# Altium integrated library OctavoLib.IntLib: 6 symbols
Pins are listed as number, name and electrical type; pins without a type are passive.

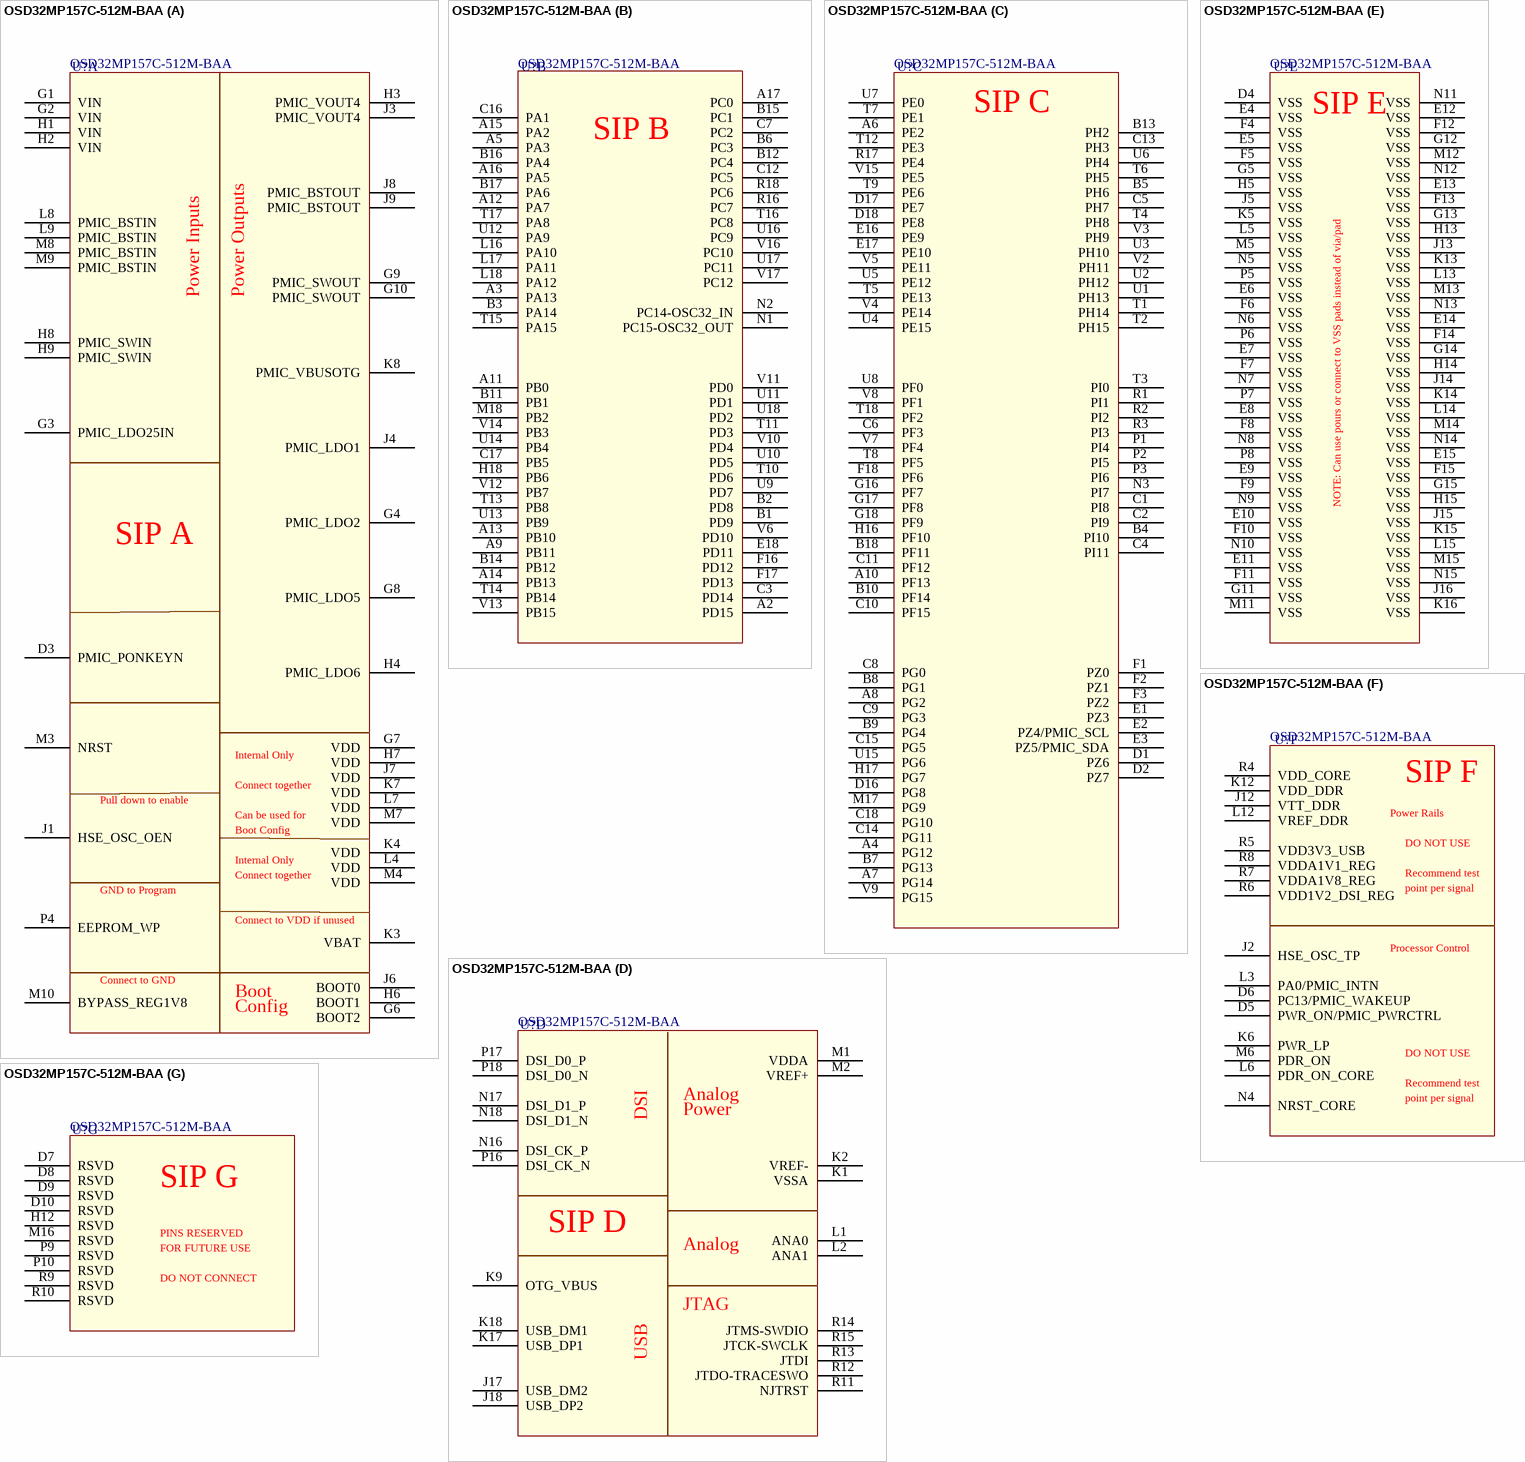
[diagram p0: symbol OSD32MP157C-512M-BAA]

## OSD32MP157C-512M-BAA
designator U?
Octavo Systems LLC OSD32MP15x Family SiP: 18mm x 18mm, 1mm pitch 302 pin BGA contains STM32MP157C, 512MB DDR3, STPMIC1A, 4kB EEPROM, MEMS oscillators (24MHz) and passives. Commerical Temperature (case): 0C to 85C.; Manufacturer: Octavo Systems; ComponentLink1Description: TBD; ComponentLink1URL: http://TBD; PackageDescription: 302-Ball Grid Array, 18x18x3mm, Pitch 1mm; Package: FBGA; Pin Count: 302-ball; Mounting Technology: Surface Mount; PartNumber: OSD32MP157C-512M-BAA
footprint BGA_18x18_302_1p00mm (302 pin 1mm pitch footprint)
part A pins: D3 PMIC_PONKEYN, G1 VIN, G2 VIN, G3 PMIC_LDO25IN, G4 PMIC_LDO2, G6 BOOT2, G7 VDD, G8 PMIC_LDO5, G9 PMIC_SWOUT, G10 PMIC_SWOUT, H1 VIN, H2 VIN, H3 PMIC_VOUT4, H4 PMIC_LDO6, H6 BOOT1, H7 VDD, H8 PMIC_SWIN, H9 PMIC_SWIN, J1 HSE_OSC_OEN, J3 PMIC_VOUT4, J4 PMIC_LDO1, J6 BOOT0, J7 VDD, J8 PMIC_BSTOUT, J9 PMIC_BSTOUT, K3 VBAT, K4 VDD, K7 VDD, K8 PMIC_VBUSOTG, L4 VDD, L7 VDD, L8 PMIC_BSTIN, L9 PMIC_BSTIN, M3 NRST, M4 VDD, M7 VDD, M8 PMIC_BSTIN, M9 PMIC_BSTIN, M10 BYPASS_REG1V8, P4 EEPROM_WP
part B pins: A2 PD15, A3 PA13, A5 PA3, A9 PB11, A11 PB0, A12 PA7, A13 PB10, A14 PB13, A15 PA2, A16 PA5, A17 PC0, B1 PD9, B2 PD8, B3 PA14, B6 PC3, B11 PB1, B12 PC4, B14 PB12, B15 PC1, B16 PA4, B17 PA6, C3 PD14, C7 PC2, C12 PC5, C16 PA1, C17 PB5, E18 PD11, F16 PD12, F17 PD13, H18 PB6, L16 PA10 "L16", L17 PA11, L18 PA12, M18 PB2, N1 PC15-OSC32_OUT, N2 PC14-OSC32_IN, R16 PC7, R18 PC6, T10 PD6, T11 PD3, T13 PB8, T14 PB14, T15 PA15, T16 PC8, T17 PA8, U9 PD7, U10 PD5, U11 PD1, U12 PA9, U13 PB9, U14 PB4, U16 PC9, U17 PC11, U18 PD2, V6 PD10, V10 PD4, V11 PD0, V12 PB7, V13 PB15, V14 PB3, V16 PC10, V17 PC12
part C pins: A4 PG12, A6 PE2, A7 PG14, A8 PG2, A10 PF13, B4 PI10, B5 PH6, B7 PG13, B8 PG1, B9 PG4, B10 PF14, B13 PH2, B18 PF11, C1 PI8, C2 PI9, C4 PI11, C5 PH7, C6 PF3, C8 PG0, C9 PG3, C10 PF15, C11 PF12, C13 PH3, C14 PG11, C15 PG5, C18 PG10, D1 PZ6, D2 PZ7, D16 PG8, D17 PE7, D18 PE8, E1 PZ3, E2 PZ4/PMIC_SCL, E3 PZ5/PMIC_SDA, E16 PE9, E17 PE10, F1 PZ0, F2 PZ1, F3 PZ2, F18 PF6, G16 PF7, G17 PF8, G18 PF9, H16 PF10, H17 PG7, M17 PG9, N3 PI7, P1 PI4, P2 PI5, P3 PI6, R1 PI1, R2 PI2, R3 PI3, R17 PE4, T1 PH14, T2 PH15, T3 PI0, T4 PH8, T5 PE13, T6 PH5, T7 PE1, T8 PF5, T9 PE6, T12 PE3, T18 PF2, U1 PH13, U2 PH12, U3 PH10, U4 PE15, U5 PE12, U6 PH4, U7 PE0, U8 PF0, U15 PG6, V2 PH11, V3 PH9, V4 PE14, V5 PE11, V7 PF4, V8 PF1, V9 PG15, V15 PE5
part D pins: J17 USB_DM2, J18 USB_DP2, K1 VSSA, K2 VREF-, K9 OTG_VBUS, K17 USB_DP1, K18 USB_DM1, L1 ANA0, L2 ANA1, M1 VDDA, M2 VREF+, N16 DSI_CK_P, N17 DSI_D1_P, N18 DSI_D1_N, P16 DSI_CK_N, P17 DSI_D0_P, P18 DSI_D0_N, R11 NJTRST, R12 JTDO-TRACESWO, R13 JTDI, R14 JTMS-SWDIO, R15 JTCK-SWCLK
part E pins: D4 VSS, E4 VSS, E5 VSS, E6 VSS, E7 VSS, E8 VSS, E9 VSS, E10 VSS, E11 VSS, E12 VSS, E13 VSS, E14 VSS, E15 VSS, F4 VSS, F5 VSS, F6 VSS, F7 VSS, F8 VSS, F9 VSS, F10 VSS, F11 VSS, F12 VSS, F13 VSS, F14 VSS, F15 VSS, G5 VSS, G11 VSS, G12 VSS, G13 VSS, G14 VSS, G15 VSS, H5 VSS, H13 VSS, H14 VSS, H15 VSS, J5 VSS, J13 VSS, J14 VSS, J15 VSS, J16 VSS, K5 VSS, K13 VSS, K14 VSS, K15 VSS, K16 VSS, L5 VSS, L13 VSS, L14 VSS, L15 VSS, M5 VSS, M11 VSS, M12 VSS, M13 VSS, M14 VSS, M15 VSS, N5 VSS, N6 VSS, N7 VSS, N8 VSS, N9 VSS, N10 VSS, N11 VSS, N12 VSS, N13 VSS, N14 VSS, N15 VSS, P5 VSS, P6 VSS, P7 VSS, P8 VSS
part F pins: D5 PWR_ON/PMIC_PWRCTRL, D6 PC13/PMIC_WAKEUP, J2 HSE_OSC_TP, J12 VTT_DDR, K6 PWR_LP, K12 VDD_DDR, L3 PA0/PMIC_INTN, L6 PDR_ON_CORE, L12 VREF_DDR, M6 PDR_ON, N4 NRST_CORE, R4 VDD_CORE, R5 VDD3V3_USB, R6 VDD1V2_DSI_REG, R7 VDDA1V8_REG, R8 VDDA1V1_REG
part G pins: D7 RSVD, D8 RSVD, D9 RSVD, D10 RSVD, H12 RSVD, M16 RSVD, P9 RSVD, P10 RSVD, R9 RSVD, R10 RSVD
part A text: Power Inputs; Power Outputs; SIP A; Internal Only; Connect together; Pull down to enable; Can be used for; Boot Config; GND to Program; Connect to VDD if unused; Connect to GND; Boot; Config
part B text: SIP B
part C text: SIP C
part D text: Analog; DSI; Power; SIP D; JTAG; USB
part E text: SIP E; NOTE: Can use pours or connect to VSS pads instead of via/pad
part F text: SIP F; Power Rails; DO NOT USE; Recommend test; point per signal; Processor Control
part G text: SIP G; PINS RESERVED; FOR FUTURE USE; DO NOT CONNECT

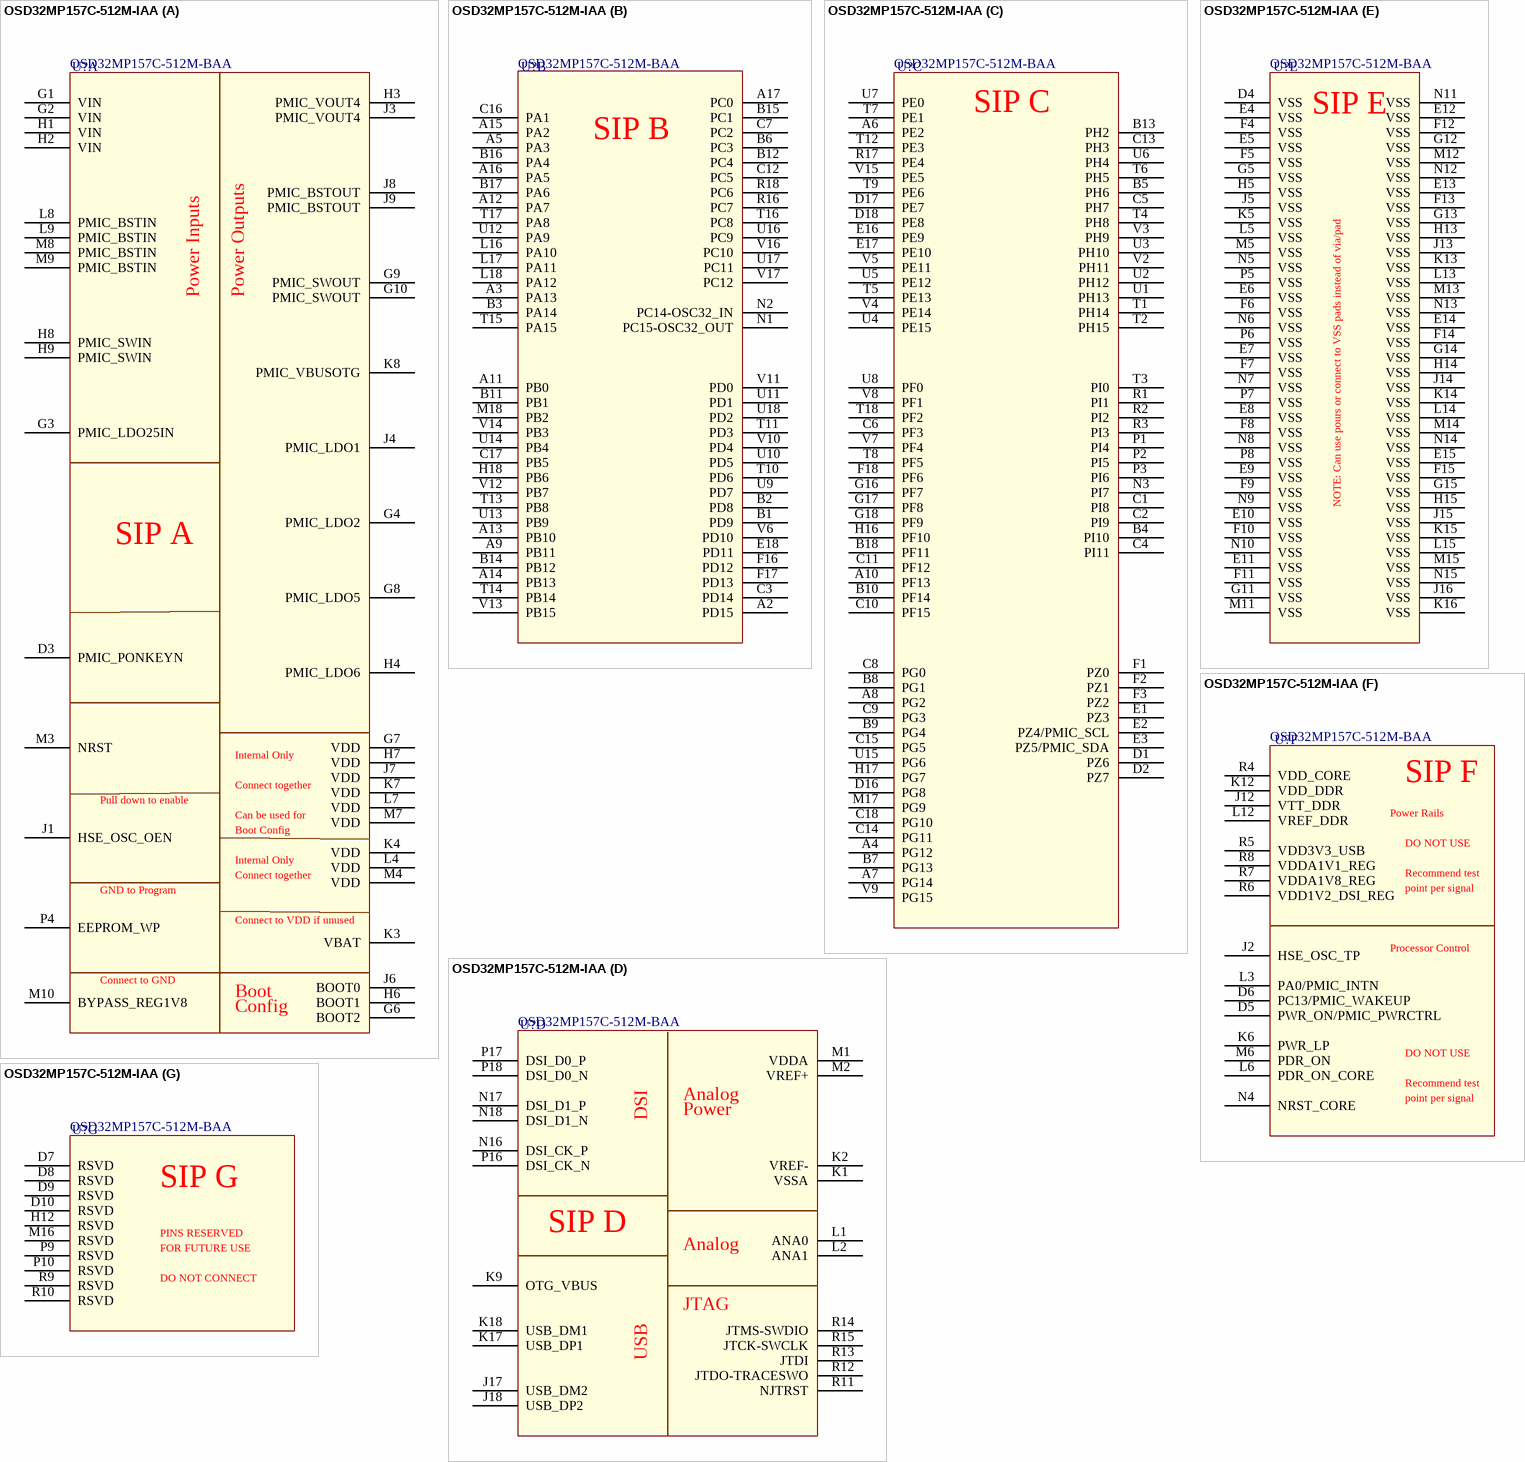
[diagram p1: symbol OSD32MP157C-512M-IAA]

## OSD32MP157C-512M-IAA
designator U?  PartNumber: OSD32MP157C-512M-BAA  (hidden comment: OSD32MP157C-512M-IAA)
Octavo Systems LLC OSD32MP15x Family SiP: 18mm x 18mm, 1mm pitch 302 pin BGA contains STM32MP157C, 512MB DDR3, STPMIC1A, 4kB EEPROM, MEMS oscillators (24MHz) and passives. Industrial Temperature (case): -40C to 85C.; Manufacturer: Octavo Systems; ComponentLink1Description: TBD; ComponentLink1URL: http://TBD; PackageDescription: 302-Ball Grid Array, 18x18x3mm, Pitch 1mm; Package: FBGA; Pin Count: 302-ball; Mounting Technology: Surface Mount
footprint BGA_18x18_302_1p00mm (302 pin 1mm pitch footprint)
part A pins: D3 PMIC_PONKEYN, G1 VIN, G2 VIN, G3 PMIC_LDO25IN, G4 PMIC_LDO2, G6 BOOT2, G7 VDD, G8 PMIC_LDO5, G9 PMIC_SWOUT, G10 PMIC_SWOUT, H1 VIN, H2 VIN, H3 PMIC_VOUT4, H4 PMIC_LDO6, H6 BOOT1, H7 VDD, H8 PMIC_SWIN, H9 PMIC_SWIN, J1 HSE_OSC_OEN, J3 PMIC_VOUT4, J4 PMIC_LDO1, J6 BOOT0, J7 VDD, J8 PMIC_BSTOUT, J9 PMIC_BSTOUT, K3 VBAT, K4 VDD, K7 VDD, K8 PMIC_VBUSOTG, L4 VDD, L7 VDD, L8 PMIC_BSTIN, L9 PMIC_BSTIN, M3 NRST, M4 VDD, M7 VDD, M8 PMIC_BSTIN, M9 PMIC_BSTIN, M10 BYPASS_REG1V8, P4 EEPROM_WP
part B pins: A2 PD15, A3 PA13, A5 PA3, A9 PB11, A11 PB0, A12 PA7, A13 PB10, A14 PB13, A15 PA2, A16 PA5, A17 PC0, B1 PD9, B2 PD8, B3 PA14, B6 PC3, B11 PB1, B12 PC4, B14 PB12, B15 PC1, B16 PA4, B17 PA6, C3 PD14, C7 PC2, C12 PC5, C16 PA1, C17 PB5, E18 PD11, F16 PD12, F17 PD13, H18 PB6, L16 PA10 "L16", L17 PA11, L18 PA12, M18 PB2, N1 PC15-OSC32_OUT, N2 PC14-OSC32_IN, R16 PC7, R18 PC6, T10 PD6, T11 PD3, T13 PB8, T14 PB14, T15 PA15, T16 PC8, T17 PA8, U9 PD7, U10 PD5, U11 PD1, U12 PA9, U13 PB9, U14 PB4, U16 PC9, U17 PC11, U18 PD2, V6 PD10, V10 PD4, V11 PD0, V12 PB7, V13 PB15, V14 PB3, V16 PC10, V17 PC12
part C pins: A4 PG12, A6 PE2, A7 PG14, A8 PG2, A10 PF13, B4 PI10, B5 PH6, B7 PG13, B8 PG1, B9 PG4, B10 PF14, B13 PH2, B18 PF11, C1 PI8, C2 PI9, C4 PI11, C5 PH7, C6 PF3, C8 PG0, C9 PG3, C10 PF15, C11 PF12, C13 PH3, C14 PG11, C15 PG5, C18 PG10, D1 PZ6, D2 PZ7, D16 PG8, D17 PE7, D18 PE8, E1 PZ3, E2 PZ4/PMIC_SCL, E3 PZ5/PMIC_SDA, E16 PE9, E17 PE10, F1 PZ0, F2 PZ1, F3 PZ2, F18 PF6, G16 PF7, G17 PF8, G18 PF9, H16 PF10, H17 PG7, M17 PG9, N3 PI7, P1 PI4, P2 PI5, P3 PI6, R1 PI1, R2 PI2, R3 PI3, R17 PE4, T1 PH14, T2 PH15, T3 PI0, T4 PH8, T5 PE13, T6 PH5, T7 PE1, T8 PF5, T9 PE6, T12 PE3, T18 PF2, U1 PH13, U2 PH12, U3 PH10, U4 PE15, U5 PE12, U6 PH4, U7 PE0, U8 PF0, U15 PG6, V2 PH11, V3 PH9, V4 PE14, V5 PE11, V7 PF4, V8 PF1, V9 PG15, V15 PE5
part D pins: J17 USB_DM2, J18 USB_DP2, K1 VSSA, K2 VREF-, K9 OTG_VBUS, K17 USB_DP1, K18 USB_DM1, L1 ANA0, L2 ANA1, M1 VDDA, M2 VREF+, N16 DSI_CK_P, N17 DSI_D1_P, N18 DSI_D1_N, P16 DSI_CK_N, P17 DSI_D0_P, P18 DSI_D0_N, R11 NJTRST, R12 JTDO-TRACESWO, R13 JTDI, R14 JTMS-SWDIO, R15 JTCK-SWCLK
part E pins: D4 VSS, E4 VSS, E5 VSS, E6 VSS, E7 VSS, E8 VSS, E9 VSS, E10 VSS, E11 VSS, E12 VSS, E13 VSS, E14 VSS, E15 VSS, F4 VSS, F5 VSS, F6 VSS, F7 VSS, F8 VSS, F9 VSS, F10 VSS, F11 VSS, F12 VSS, F13 VSS, F14 VSS, F15 VSS, G5 VSS, G11 VSS, G12 VSS, G13 VSS, G14 VSS, G15 VSS, H5 VSS, H13 VSS, H14 VSS, H15 VSS, J5 VSS, J13 VSS, J14 VSS, J15 VSS, J16 VSS, K5 VSS, K13 VSS, K14 VSS, K15 VSS, K16 VSS, L5 VSS, L13 VSS, L14 VSS, L15 VSS, M5 VSS, M11 VSS, M12 VSS, M13 VSS, M14 VSS, M15 VSS, N5 VSS, N6 VSS, N7 VSS, N8 VSS, N9 VSS, N10 VSS, N11 VSS, N12 VSS, N13 VSS, N14 VSS, N15 VSS, P5 VSS, P6 VSS, P7 VSS, P8 VSS
part F pins: D5 PWR_ON/PMIC_PWRCTRL, D6 PC13/PMIC_WAKEUP, J2 HSE_OSC_TP, J12 VTT_DDR, K6 PWR_LP, K12 VDD_DDR, L3 PA0/PMIC_INTN, L6 PDR_ON_CORE, L12 VREF_DDR, M6 PDR_ON, N4 NRST_CORE, R4 VDD_CORE, R5 VDD3V3_USB, R6 VDD1V2_DSI_REG, R7 VDDA1V8_REG, R8 VDDA1V1_REG
part G pins: D7 RSVD, D8 RSVD, D9 RSVD, D10 RSVD, H12 RSVD, M16 RSVD, P9 RSVD, P10 RSVD, R9 RSVD, R10 RSVD
part A text: Power Inputs; Power Outputs; SIP A; Internal Only; Connect together; Pull down to enable; Can be used for; Boot Config; GND to Program; Connect to VDD if unused; Connect to GND; Boot; Config
part B text: SIP B
part C text: SIP C
part D text: Analog; DSI; Power; SIP D; JTAG; USB
part E text: SIP E; NOTE: Can use pours or connect to VSS pads instead of via/pad
part F text: SIP F; Power Rails; DO NOT USE; Recommend test; point per signal; Processor Control
part G text: SIP G; PINS RESERVED; FOR FUTURE USE; DO NOT CONNECT

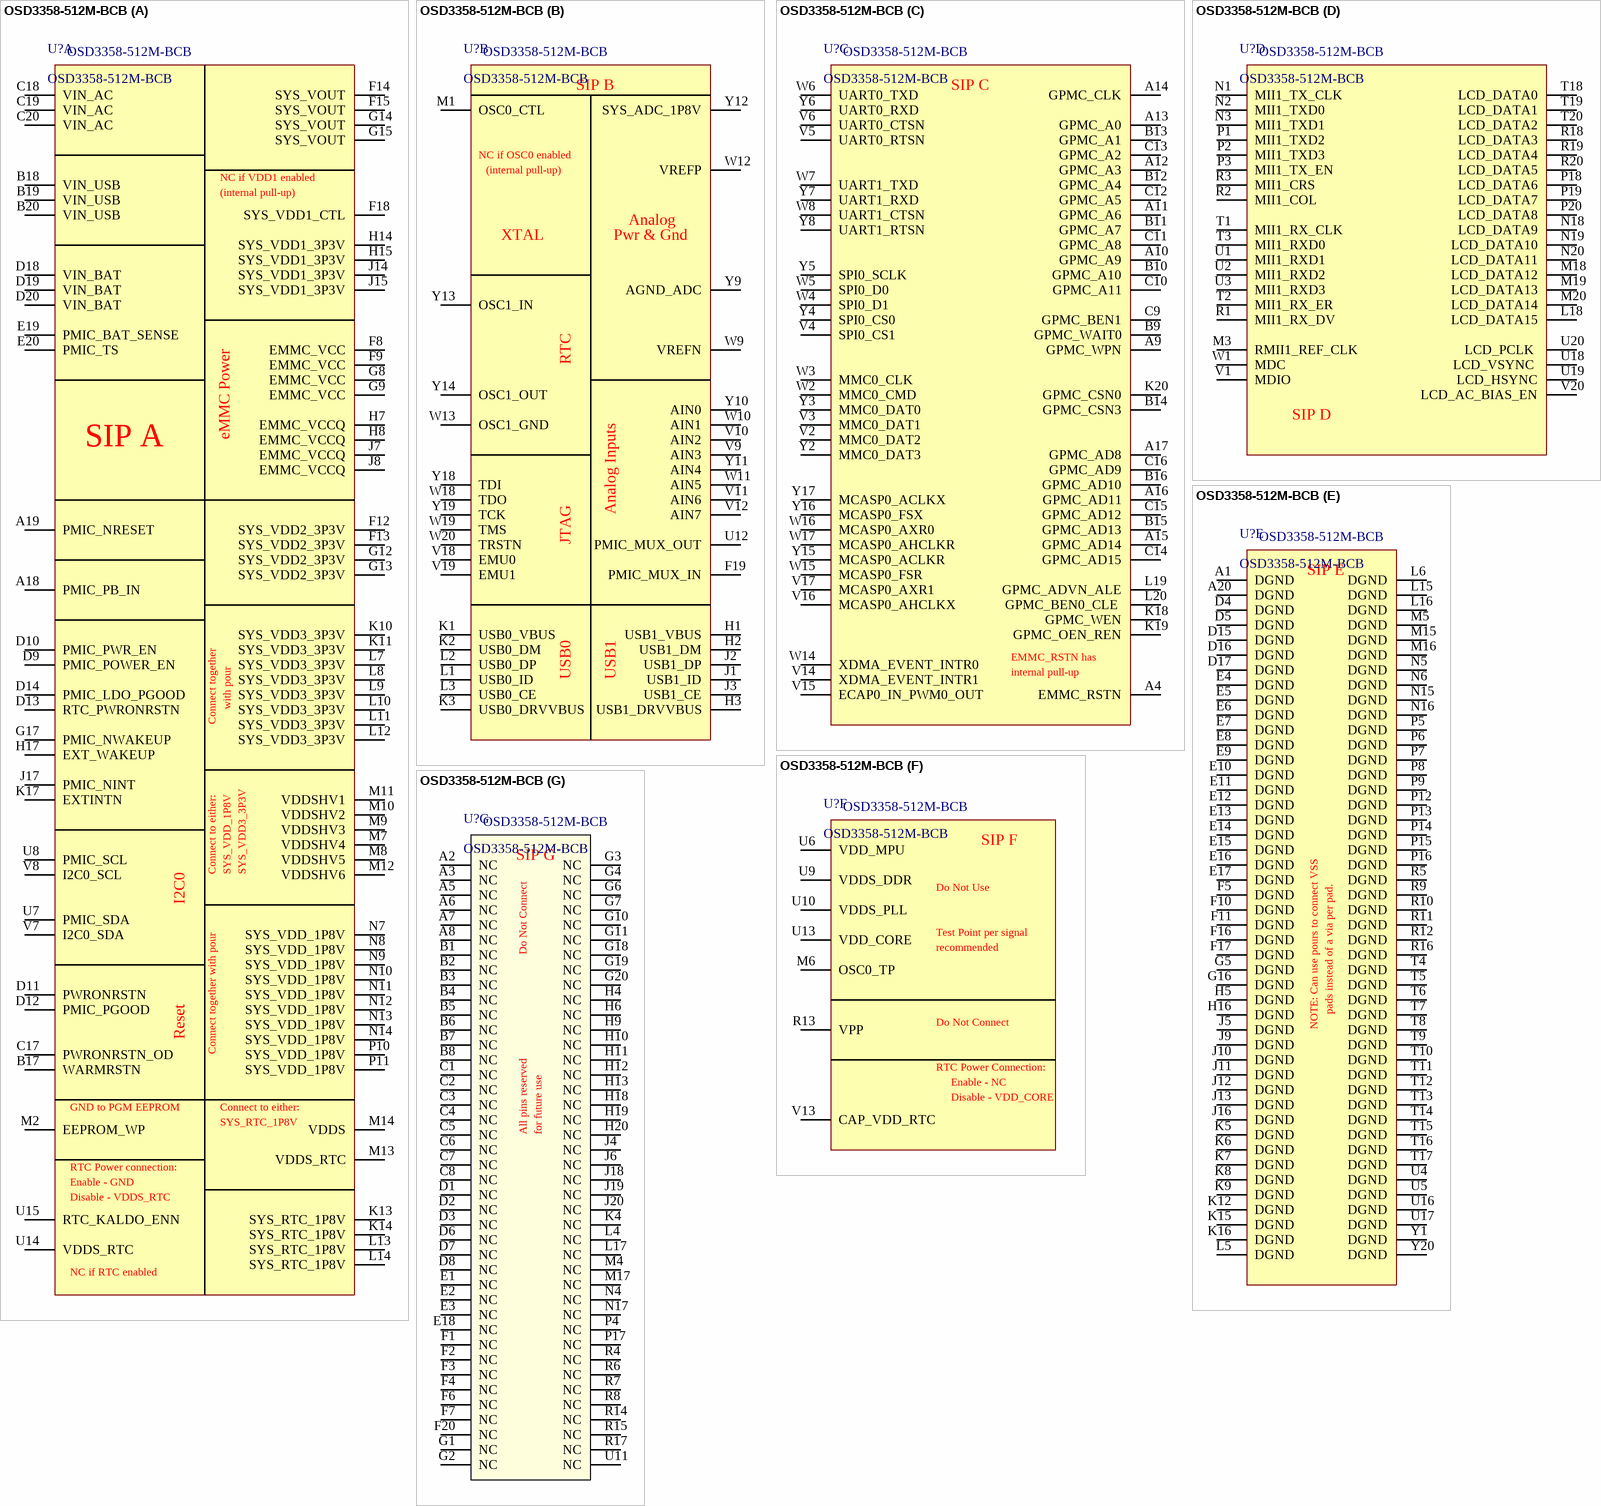
[diagram p2: symbol OSD3358-512M-BCB]

## OSD3358-512M-BCB
designator U?
Octavo Systems OSD335x Family SiP:  27mm x 27mm, 1.27mm pitch 400 pin BGA contains AM3358, 512MB DDR3, TPS65217C, TL5209, 4KB EEPROM, 4GB eMMC, 24MHz oscillator, and passives.  Commercial Temperature (case):  0C to 85C.; PackageDescription: 400-Ball Grid Array, 21x21x2.6 mm, Pitch 1.27 mm; Package: FBGA; Pin Count: 400-ball; Mounting Technology: Surface Mount; Manufacturer: Octavo Systems; ComponentLinkURL: www.octavosystems.com; PackageReference: FBGA-400; PartNumber: OSD3358-512M-BCB
footprint BGA_20x20_400_1p27mm (400 pin 1.27mm pitch footprint)
part A pins: A18 PMIC_PB_IN, A19 PMIC_NRESET, B17 WARMRSTN, B18 VIN_USB (power), B19 VIN_USB (power), B20 VIN_USB (power), C17 PWRONRSTN_OD, C18 VIN_AC (power), C19 VIN_AC (power), C20 VIN_AC (power), D9 PMIC_POWER_EN, D10 PMIC_PWR_EN, D11 PWRONRSTN, D12 PMIC_PGOOD, D13 RTC_PWRONRSTN, D14 PMIC_LDO_PGOOD, D18 VIN_BAT (power), D19 VIN_BAT (power), D20 VIN_BAT (power), E19 PMIC_BAT_SENSE, E20 PMIC_TS, F8 EMMC_VCC (power), F9 EMMC_VCC (power), F12 SYS_VDD2_3P3V (power), F13 SYS_VDD2_3P3V (power), F14 SYS_VOUT (power), F15 SYS_VOUT (power), F18 SYS_VDD1_CTL, G8 EMMC_VCC (power), G9 EMMC_VCC (power), G12 SYS_VDD2_3P3V (power), G13 SYS_VDD2_3P3V (power), G14 SYS_VOUT (power), G15 SYS_VOUT (power), G17 PMIC_NWAKEUP, H7 EMMC_VCCQ (power), H8 EMMC_VCCQ (power), H14 SYS_VDD1_3P3V (power), H15 SYS_VDD1_3P3V (power), H17 EXT_WAKEUP, J7 EMMC_VCCQ (power), J8 EMMC_VCCQ (power), J14 SYS_VDD1_3P3V (power), J15 SYS_VDD1_3P3V (power), J17 PMIC_NINT, K10 SYS_VDD3_3P3V (power), K11 SYS_VDD3_3P3V (power), K13 SYS_RTC_1P8V (power), K14 SYS_RTC_1P8V (power), K17 EXTINTN, L7 SYS_VDD3_3P3V (power), L8 SYS_VDD3_3P3V (power), L9 SYS_VDD3_3P3V (power), L10 SYS_VDD3_3P3V (power), L11 SYS_VDD3_3P3V (power), L12 SYS_VDD3_3P3V (power), L13 SYS_RTC_1P8V (power), L14 SYS_RTC_1P8V (power), M2 EEPROM_WP, M7 VDDSHV4 (power), M8 VDDSHV5 (power), M9 VDDSHV3 (power), M10 VDDSHV2 (power), M11 VDDSHV1 (power), M12 VDDSHV6 (power), M13 VDDS_RTC (power), M14 VDDS (power), N7 SYS_VDD_1P8V (power), N8 SYS_VDD_1P8V (power), N9 SYS_VDD_1P8V (power), N10 SYS_VDD_1P8V (power), N11 SYS_VDD_1P8V (power), N12 SYS_VDD_1P8V (power), N13 SYS_VDD_1P8V (power), N14 SYS_VDD_1P8V (power), P10 SYS_VDD_1P8V (power), P11 SYS_VDD_1P8V (power), U7 PMIC_SDA, U8 PMIC_SCL, U14 VDDS_RTC (power), U15 RTC_KALDO_ENN, V7 I2C0_SDA, V8 I2C0_SCL
part B pins: F19 PMIC_MUX_IN, H1 USB1_VBUS, H2 USB1_DM, H3 USB1_DRVVBUS, J1 USB1_ID, J2 USB1_DP, J3 USB1_CE, K1 USB0_VBUS, K2 USB0_DM, K3 USB0_DRVVBUS, L1 USB0_ID, L2 USB0_DP, L3 USB0_CE, M1 OSC0_CTL, U12 PMIC_MUX_OUT, V9 AIN3, V10 AIN2, V11 AIN6, V12 AIN7, V18 EMU0, V19 EMU1, W9 VREFN (power), W10 AIN1, W11 AIN5, W12 VREFP (power), W13 OSC1_GND (power), W18 TDO, W19 TMS, W20 TRSTN, Y9 AGND_ADC (power), Y10 AIN0, Y11 AIN4, Y12 SYS_ADC_1P8V (power), Y13 OSC1_IN, Y14 OSC1_OUT, Y18 TDI, Y19 TCK
part C pins: A4 EMMC_RSTN, A9 GPMC_WPN, A10 GPMC_A9, A11 GPMC_A6, A12 GPMC_A3, A13 GPMC_A0, A14 GPMC_CLK, A15 GPMC_AD14, A16 GPMC_AD11, A17 GPMC_AD8, B9 GPMC_WAIT0, B10 GPMC_A10, B11 GPMC_A7, B12 GPMC_A4, B13 GPMC_A1, B14 GPMC_CSN3, B15 GPMC_AD13, B16 GPMC_AD10, C9 GPMC_BEN1, C10 GPMC_A11, C11 GPMC_A8, C12 GPMC_A5, C13 GPMC_A2, C14 GPMC_AD15, C15 GPMC_AD12, C16 GPMC_AD9, K18 GPMC_WEN, K19 GPMC_OEN_REN, K20 GPMC_CSN0, L19 GPMC_ADVN_ALE, L20 GPMC_BEN0_CLE , V2 MMC0_DAT2, V3 MMC0_DAT1, V4 SPI0_CS1, V5 UART0_RTSN, V6 UART0_CTSN, V14 XDMA_EVENT_INTR1, V15 ECAP0_IN_PWM0_OUT, V16 MCASP0_AHCLKX, V17 MCASP0_AXR1, W2 MMC0_CMD, W3 MMC0_CLK, W4 SPI0_D1, W5 SPI0_D0, W6 UART0_TXD, W7 UART1_TXD, W8 UART1_CTSN, W14 XDMA_EVENT_INTR0, W15 MCASP0_FSR, W16 MCASP0_AXR0, W17 MCASP0_AHCLKR, Y2 MMC0_DAT3, Y3 MMC0_DAT0, Y4 SPI0_CS0, Y5 SPI0_SCLK, Y6 UART0_RXD, Y7 UART1_RXD, Y8 UART1_RTSN, Y15 MCASP0_ACLKR, Y16 MCASP0_FSX, Y17 MCASP0_ACLKX
part D pins: L18 LCD_DATA15, M3 RMII1_REF_CLK, M18 LCD_DATA12, M19 LCD_DATA13, M20 LCD_DATA14, N1 MII1_TX_CLK, N2 MII1_TXD0, N3 MII1_TXD1, N18 LCD_DATA9, N19 LCD_DATA10, N20 LCD_DATA11, P1 MII1_TXD2, P2 MII1_TXD3, P3 MII1_TX_EN, P18 LCD_DATA6, P19 LCD_DATA7, P20 LCD_DATA8, R1 MII1_RX_DV, R2 MII1_COL, R3 MII1_CRS, R18 LCD_DATA3, R19 LCD_DATA4, R20 LCD_DATA5, T1 MII1_RX_CLK, T2 MII1_RX_ER, T3 MII1_RXD0, T18 LCD_DATA0, T19 LCD_DATA1, T20 LCD_DATA2, U1 MII1_RXD1, U2 MII1_RXD2, U3 MII1_RXD3, U18 LCD_VSYNC , U19 LCD_HSYNC, U20 LCD_PCLK , V1 MDIO, V20 LCD_AC_BIAS_EN, W1 MDC
part E pins: A1 DGND (power), A20 DGND (power), D4 DGND (power), D5 DGND (power), D15 DGND (power), D16 DGND (power), D17 DGND (power), E4 DGND (power), E5 DGND (power), E6 DGND (power), E7 DGND (power), E8 DGND (power), E9 DGND (power), E10 DGND (power), E11 DGND (power), E12 DGND (power), E13 DGND (power), E14 DGND (power), E15 DGND (power), E16 DGND (power), E17 DGND (power), F5 DGND (power), F10 DGND (power), F11 DGND (power), F16 DGND (power), F17 DGND (power), G5 DGND (power), G16 DGND (power), H5 DGND (power), H16 DGND (power), J5 DGND (power), J9 DGND (power), J10 DGND (power), J11 DGND (power), J12 DGND (power), J13 DGND (power), J16 DGND (power), K5 DGND (power), K6 DGND (power), K7 DGND (power), K8 DGND (power), K9 DGND (power), K12 DGND (power), K15 DGND (power), K16 DGND (power), L5 DGND (power), L6 DGND (power), L15 DGND (power), L16 DGND (power), M5 DGND (power), M15 DGND (power), M16 DGND (power), N5 DGND (power), N6 DGND (power), N15 DGND (power), N16 DGND (power), P5 DGND (power), P6 DGND (power), P7 DGND (power), P8 DGND (power), P9 DGND (power), P12 DGND (power), P13 DGND (power), P14 DGND (power), P15 DGND (power), P16 DGND (power), R5 DGND (power), R9 DGND (power), R10 DGND (power), R11 DGND (power), R12 DGND (power), R16 DGND (power), T4 DGND (power), T5 DGND (power), T6 DGND (power), T7 DGND (power), T8 DGND (power), T9 DGND (power), T10 DGND (power), T11 DGND (power), T12 DGND (power), T13 DGND (power), T14 DGND (power), T15 DGND (power), T16 DGND (power), T17 DGND (power), U4 DGND (power), U5 DGND (power), U16 DGND (power), U17 DGND (power) "U17", Y1 DGND (power), Y20 DGND (power)
part F pins: M6 OSC0_TP, R13 VPP (power), U6 VDD_MPU (power), U9 VDDS_DDR (power), U10 VDDS_PLL (power), U13 VDD_CORE (power), V13 CAP_VDD_RTC (power)
part G pins: A2 NC, A3 NC, A5 NC, A6 NC, A7 NC, A8 NC, B1 NC, B2 NC, B3 NC, B4 NC, B5 NC, B6 NC, B7 NC, B8 NC, C1 NC, C2 NC, C3 NC, C4 NC, C5 NC, C6 NC, C7 NC, C8 NC, D1 NC, D2 NC, D3 NC, D6 NC, D7 NC, D8 NC, E1 NC, E2 NC, E3 NC, E18 NC, F1 NC, F2 NC, F3 NC, F4 NC, F6 NC (power), F7 NC (power), F20 NC, G1 NC, G2 NC, G3 NC, G4 NC, G6 NC (power), G7 NC (power), G10 NC, G11 NC, G18 NC, G19 NC, G20 NC, H4 NC, H6 NC, H9 NC, H10 NC, H11 NC, H12 NC, H13 NC, H18 NC, H19 NC, H20 NC, J4 NC, J6 NC, J18 NC, J19 NC, J20 NC, K4 NC, L4 NC, L17 NC, M4 NC, M17 NC, N4 NC, N17 NC, P4 NC, P17 NC, R4 NC, R6 NC, R7 NC, R8 NC (power), R14 NC, R15 NC, R17 NC, U11 NC
part A text: NC if VDD1 enabled; (internal pull-up); eMMC Power; SIP A; with pour; Connect together; Connect to either:; I2C0; Reset; Connect together with pour; GND to PGM EEPROM; RTC Power connection:; Enable - GND; Disable - VDDS_RTC; NC if RTC enabled
part B text: SIP B; NC if OSC0 enabled; (internal pull-up); Analog; XTAL; Pwr & Gnd; RTC; Analog Inputs; JTAG; USB0; USB1
part C text: SIP C; EMMC_RSTN has; internal pull-up
part D text: SIP D
part E text: SIP E; pads instead of a via per pad.; NOTE: Can use pours to connect VSS
part F text: SIP F; Do Not Use; Test Point per signal; recommended; Do Not Connect; RTC Power Connection:; Enable - NC; Disable - VDD_CORE
part G text: SIP G; Do Not Connect; All pins reserved; for future use

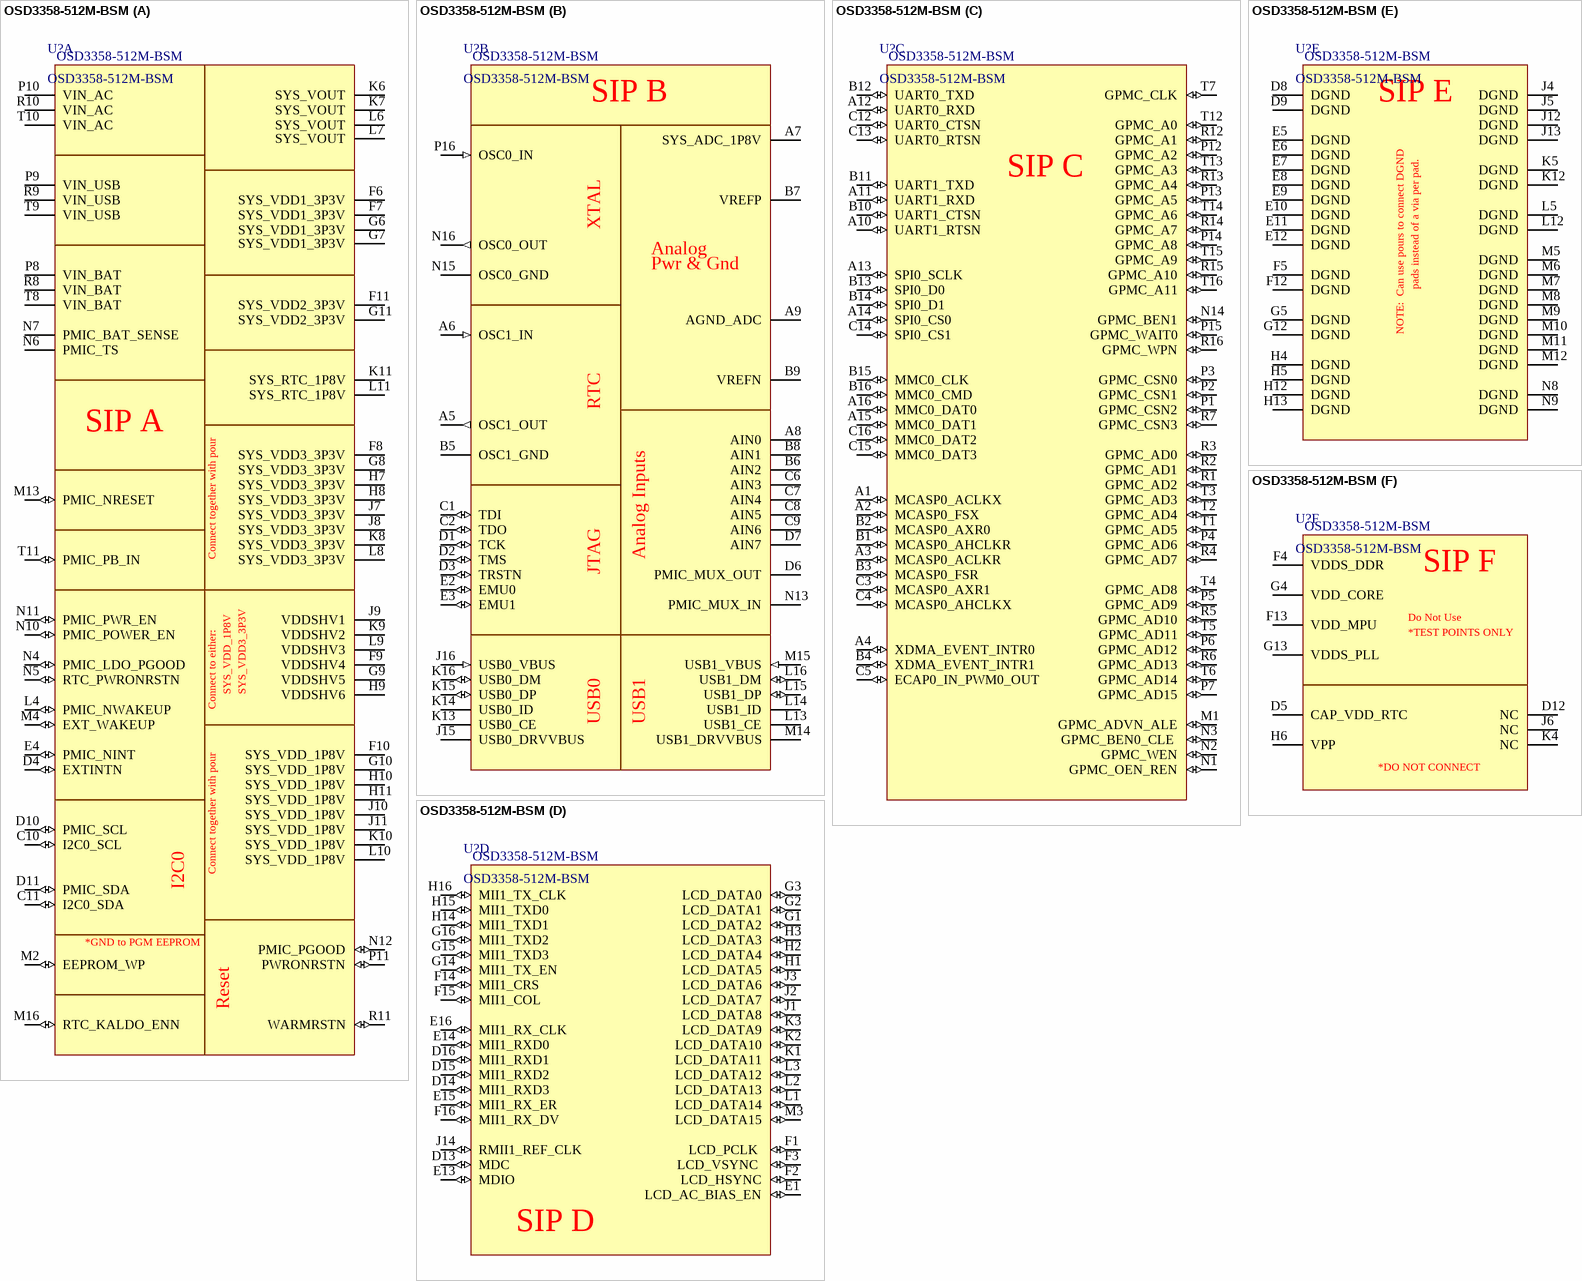
[diagram p3: symbol OSD3358-512M-BSM]

## OSD3358-512M-BSM
designator U?
Octavo Systems LLC OSD335x Family SiP:  27mm x 27mm, 1.27mm pitch 400 pin BGA contains AM3358, 512MB DDR3, TPS65217, TL5209, 4KB EEPROM, 4GB eMMC, 24MHz oscillator, and passives.  Commerical Temperature (case):  0C to 85C.; PackageDescription: 256-Ball Grid Array, 21x21x3 mm, Pitch 1.27 mm; Package: FBGA; Pin Count: 256-ball; Mounting Technology: Surface Mount; Manufacturer: Octavo Systems; ComponentLink1Description: Manufacturer URL; ComponentLink1URL: http://www.octavosystems.com/; PackageReference: FBGA-256; PartNumber: OSD3358-512M-BSM
footprint BGA_16x16_256_1p27mm (256 pin 1.27mm pitch footprint)
part A pins: C10 I2C0_SCL (io), C11 I2C0_SDA (io), D4 EXTINTN (io), D10 PMIC_SCL (io), D11 PMIC_SDA (io), E4 PMIC_NINT (io), F6 SYS_VDD1_3P3V (power), F7 SYS_VDD1_3P3V (power), F8 SYS_VDD3_3P3V (power), F9 VDDSHV4 (power), F10 SYS_VDD_1P8V (power), F11 SYS_VDD2_3P3V (power), G6 SYS_VDD1_3P3V (power), G7 SYS_VDD1_3P3V (power), G8 SYS_VDD3_3P3V (power), G9 VDDSHV5 (power), G10 SYS_VDD_1P8V (power), G11 SYS_VDD2_3P3V (power), H7 SYS_VDD3_3P3V (power), H8 SYS_VDD3_3P3V (power), H9 VDDSHV6 (power), H10 SYS_VDD_1P8V (power), H11 SYS_VDD_1P8V (power), J7 SYS_VDD3_3P3V (power), J8 SYS_VDD3_3P3V (power), J9 VDDSHV1 (power), J10 SYS_VDD_1P8V (power), J11 SYS_VDD_1P8V (power), K6 SYS_VOUT (power), K7 SYS_VOUT (power), K8 SYS_VDD3_3P3V (power), K9 VDDSHV2 (power), K10 SYS_VDD_1P8V (power), K11 SYS_RTC_1P8V (power), L4 PMIC_NWAKEUP (io), L6 SYS_VOUT (power), L7 SYS_VOUT (power), L8 SYS_VDD3_3P3V (power), L9 VDDSHV3 (power), L10 SYS_VDD_1P8V (power), L11 SYS_RTC_1P8V (power), M2 EEPROM_WP (io), M4 EXT_WAKEUP (io), M13 PMIC_NRESET (io), M16 RTC_KALDO_ENN (io), N4 PMIC_LDO_PGOOD (io), N5 RTC_PWRONRSTN (io), N6 PMIC_TS, N7 PMIC_BAT_SENSE, N10 PMIC_POWER_EN (io), N11 PMIC_PWR_EN (io), N12 PMIC_PGOOD (io), P8 VIN_BAT (power), P9 VIN_USB (power), P10 VIN_AC (power), P11 PWRONRSTN (io), R8 VIN_BAT (power), R9 VIN_USB (power), R10 VIN_AC (power), R11 WARMRSTN (io), T8 VIN_BAT (power), T9 VIN_USB (power), T10 VIN_AC (power), T11 PMIC_PB_IN (io)
part B pins: A5 OSC1_OUT (out), A6 OSC1_IN (in), A7 SYS_ADC_1P8V (power), A8 AIN0, A9 AGND_ADC (power), B5 OSC1_GND (power), B6 AIN2, B7 VREFP (power), B8 AIN1, B9 VREFN (power), C1 TDI (io), C2 TDO (io), C6 AIN3, C7 AIN4, C8 AIN5, C9 AIN6, D1 TCK (io), D2 TMS (io), D3 TRSTN (io), D6 PMIC_MUX_OUT, D7 AIN7, E2 EMU0 (io), E3 EMU1 (io), J15 USB0_DRVVBUS (power), J16 USB0_VBUS (in), K13 USB0_CE (power), K14 USB0_ID, K15 USB0_DP (io), K16 USB0_DM (io), L13 USB1_CE (power), L14 USB1_ID, L15 USB1_DP (io), L16 USB1_DM (io), M14 USB1_DRVVBUS (power), M15 USB1_VBUS (in), N13 PMIC_MUX_IN, N15 OSC0_GND (power), N16 OSC0_OUT (out), P16 OSC0_IN (in)
part C pins: A1 MCASP0_ACLKX (io), A2 MCASP0_FSX (io), A3 MCASP0_ACLKR (io), A4 XDMA_EVENT_INTR0 (io), A10 UART1_RTSN (io), A11 UART1_RXD (io), A12 UART0_RXD (io), A13 SPI0_SCLK (io), A14 SPI0_CS0 (io), A15 MMC0_DAT1 (io), A16 MMC0_DAT0 (io), B1 MCASP0_AHCLKR (io), B2 MCASP0_AXR0 (io), B3 MCASP0_FSR (io), B4 XDMA_EVENT_INTR1 (io), B10 UART1_CTSN (io), B11 UART1_TXD (io), B12 UART0_TXD (io), B13 SPI0_D0 (io), B14 SPI0_D1 (io), B15 MMC0_CLK (io), B16 MMC0_CMD (io), C3 MCASP0_AXR1 (io), C4 MCASP0_AHCLKX (io), C5 ECAP0_IN_PWM0_OUT (io), C12 UART0_CTSN (io), C13 UART0_RTSN (io), C14 SPI0_CS1 (io), C15 MMC0_DAT3 (io), C16 MMC0_DAT2 (io), M1 GPMC_ADVN_ALE (io), N1 GPMC_OEN_REN (io), N2 GPMC_WEN (io), N3 GPMC_BEN0_CLE  (io), N14 GPMC_BEN1 (io), P1 GPMC_CSN2 (io), P2 GPMC_CSN1 (io), P3 GPMC_CSN0 (io), P4 GPMC_AD6 (io), P5 GPMC_AD9 (io), P6 GPMC_AD12 (io), P7 GPMC_AD15 (io), P12 GPMC_A2 (io), P13 GPMC_A5 (io), P14 GPMC_A8 (io), P15 GPMC_WAIT0 (io), R1 GPMC_AD2 (io), R2 GPMC_AD1 (io), R3 GPMC_AD0 (io), R4 GPMC_AD7 (io), R5 GPMC_AD10 (io), R6 GPMC_AD13 (io), R7 GPMC_CSN3 (io), R12 GPMC_A1 (io), R13 GPMC_A4 (io), R14 GPMC_A7 (io), R15 GPMC_A10 (io), R16 GPMC_WPN (io), T1 GPMC_AD5 (io), T2 GPMC_AD4 (io), T3 GPMC_AD3 (io), T4 GPMC_AD8 (io), T5 GPMC_AD11 (io), T6 GPMC_AD14 (io), T7 GPMC_CLK (io), T12 GPMC_A0 (io), T13 GPMC_A3 (io), T14 GPMC_A6 (io), T15 GPMC_A9 (io), T16 GPMC_A11 (io)
part D pins: D13 MDC (io), D14 MII1_RXD3 (io), D15 MII1_RXD2 (io), D16 MII1_RXD1 (io), E1 LCD_AC_BIAS_EN (io), E13 MDIO (io), E14 MII1_RXD0 (io), E15 MII1_RX_ER (io), E16  MII1_RX_CLK (io), F1 LCD_PCLK  (io), F2 LCD_HSYNC (io), F3 LCD_VSYNC  (io), F14 MII1_CRS (io), F15 MII1_COL (io), F16 MII1_RX_DV (io), G1 LCD_DATA2 (io), G2 LCD_DATA1 (io), G3 LCD_DATA0 (io), G14 MII1_TX_EN (io), G15 MII1_TXD3 (io), G16 MII1_TXD2 (io), H1 LCD_DATA5 (io), H2 LCD_DATA4 (io), H3 LCD_DATA3 (io), H14 MII1_TXD1 (io), H15 MII1_TXD0 (io), H16  MII1_TX_CLK (io), J1 LCD_DATA8 (io), J2 LCD_DATA7 (io), J3 LCD_DATA6 (io), J14 RMII1_REF_CLK (io), K1 LCD_DATA11 (io), K2 LCD_DATA10 (io), K3 LCD_DATA9 (io), L1 LCD_DATA14 (io), L2 LCD_DATA13 (io), L3 LCD_DATA12 (io), M3 LCD_DATA15 (io)
part E pins: D8 DGND (power), D9 DGND (power), E5 DGND (power), E6 DGND (power), E7 DGND (power), E8 DGND (power), E9 DGND (power), E10 DGND (power), E11 DGND (power), E12 DGND (power), F5 DGND (power), F12 DGND (power), G5 DGND (power), G12 DGND (power), H4 DGND (power), H5 DGND (power), H12 DGND (power), H13 DGND (power), J4 DGND (power), J5 DGND (power), J12 DGND (power), J13 DGND (power), K5 DGND (power), K12 DGND (power), L5 DGND (power), L12 DGND (power), M5 DGND (power), M6 DGND (power), M7 DGND (power), M8 DGND (power), M9 DGND (power), M10 DGND (power), M11 DGND (power), M12 DGND (power), N8 DGND (power), N9 DGND (power)
part F pins: D5 CAP_VDD_RTC (power), D12 NC (power), F4 VDDS_DDR (power), F13 VDD_MPU (power), G4 VDD_CORE (power), G13 VDDS_PLL (power), H6 VPP (power), J6 NC (power), K4 NC (power)
part A text: SIP A; Connect together with pour; Connect to either:; I2C0; *GND to PGM EEPROM; Reset
part B text: SIP B; XTAL; Analog; Pwr & Gnd; RTC; Analog Inputs; JTAG; USB0; USB1
part C text: SIP C
part D text: SIP D
part E text: SIP E; pads instead of a via per pad.; NOTE:  Can use pours to connect DGND
part F text: SIP F; Do Not Use; *TEST POINTS ONLY; *DO NOT CONNECT

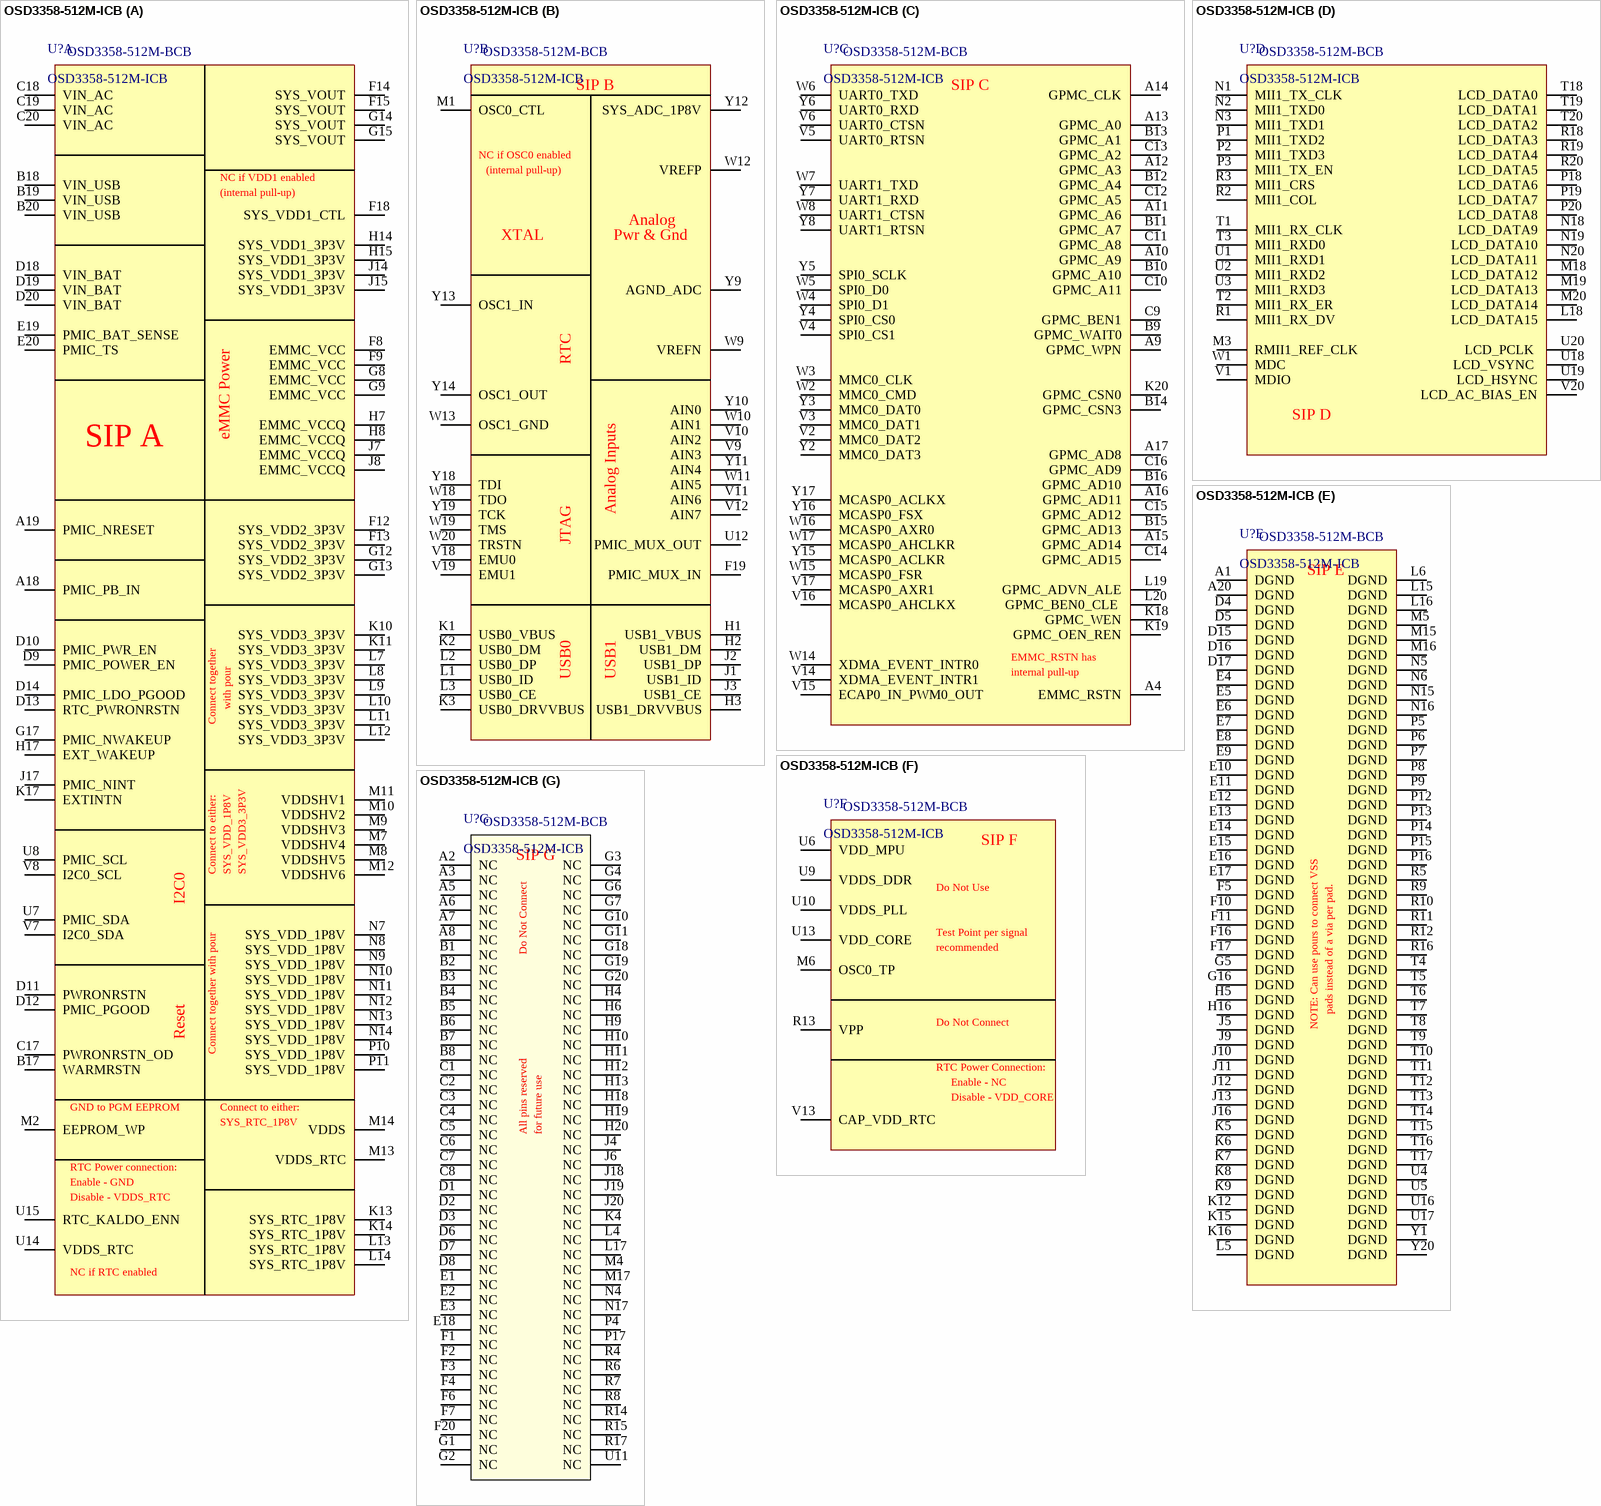
[diagram p4: symbol OSD3358-512M-ICB]

## OSD3358-512M-ICB
designator U?  PartNumber: OSD3358-512M-BCB
Octavo Systems OSD335x Family SiP:  27mm x 27mm, 1.27mm pitch 400 pin BGA contains AM3358, 512MB DDR3, TPS65217C, TL5209, 4KB EEPROM, 4GB eMMC, 24MHz oscillator, and passives.  Industrial Temperature (case):  -40C to 85C.; PackageDescription: 400-Ball Grid Array, 21x21x2.6 mm, Pitch 1.27 mm; Package: FBGA; Pin Count: 400-ball; Mounting Technology: Surface Mount; Manufacturer: Octavo Systems; ComponentLinkURL: www.octavosystems.com; PackageReference: FBGA-400
footprint BGA_20x20_400_1p27mm (400 pin 1.27mm pitch footprint)
part A pins: A18 PMIC_PB_IN, A19 PMIC_NRESET, B17 WARMRSTN, B18 VIN_USB (power), B19 VIN_USB (power), B20 VIN_USB (power), C17 PWRONRSTN_OD, C18 VIN_AC (power), C19 VIN_AC (power), C20 VIN_AC (power), D9 PMIC_POWER_EN, D10 PMIC_PWR_EN, D11 PWRONRSTN, D12 PMIC_PGOOD, D13 RTC_PWRONRSTN, D14 PMIC_LDO_PGOOD, D18 VIN_BAT (power), D19 VIN_BAT (power), D20 VIN_BAT (power), E19 PMIC_BAT_SENSE, E20 PMIC_TS, F8 EMMC_VCC (power), F9 EMMC_VCC (power), F12 SYS_VDD2_3P3V (power), F13 SYS_VDD2_3P3V (power), F14 SYS_VOUT (power), F15 SYS_VOUT (power), F18 SYS_VDD1_CTL, G8 EMMC_VCC (power), G9 EMMC_VCC (power), G12 SYS_VDD2_3P3V (power), G13 SYS_VDD2_3P3V (power), G14 SYS_VOUT (power), G15 SYS_VOUT (power), G17 PMIC_NWAKEUP, H7 EMMC_VCCQ (power), H8 EMMC_VCCQ (power), H14 SYS_VDD1_3P3V (power), H15 SYS_VDD1_3P3V (power), H17 EXT_WAKEUP, J7 EMMC_VCCQ (power), J8 EMMC_VCCQ (power), J14 SYS_VDD1_3P3V (power), J15 SYS_VDD1_3P3V (power), J17 PMIC_NINT, K10 SYS_VDD3_3P3V (power), K11 SYS_VDD3_3P3V (power), K13 SYS_RTC_1P8V (power), K14 SYS_RTC_1P8V (power), K17 EXTINTN, L7 SYS_VDD3_3P3V (power), L8 SYS_VDD3_3P3V (power), L9 SYS_VDD3_3P3V (power), L10 SYS_VDD3_3P3V (power), L11 SYS_VDD3_3P3V (power), L12 SYS_VDD3_3P3V (power), L13 SYS_RTC_1P8V (power), L14 SYS_RTC_1P8V (power), M2 EEPROM_WP, M7 VDDSHV4 (power), M8 VDDSHV5 (power), M9 VDDSHV3 (power), M10 VDDSHV2 (power), M11 VDDSHV1 (power), M12 VDDSHV6 (power), M13 VDDS_RTC (power), M14 VDDS (power), N7 SYS_VDD_1P8V (power), N8 SYS_VDD_1P8V (power), N9 SYS_VDD_1P8V (power), N10 SYS_VDD_1P8V (power), N11 SYS_VDD_1P8V (power), N12 SYS_VDD_1P8V (power), N13 SYS_VDD_1P8V (power), N14 SYS_VDD_1P8V (power), P10 SYS_VDD_1P8V (power), P11 SYS_VDD_1P8V (power), U7 PMIC_SDA, U8 PMIC_SCL, U14 VDDS_RTC (power), U15 RTC_KALDO_ENN, V7 I2C0_SDA, V8 I2C0_SCL
part B pins: F19 PMIC_MUX_IN, H1 USB1_VBUS, H2 USB1_DM, H3 USB1_DRVVBUS, J1 USB1_ID, J2 USB1_DP, J3 USB1_CE, K1 USB0_VBUS, K2 USB0_DM, K3 USB0_DRVVBUS, L1 USB0_ID, L2 USB0_DP, L3 USB0_CE, M1 OSC0_CTL, U12 PMIC_MUX_OUT, V9 AIN3, V10 AIN2, V11 AIN6, V12 AIN7, V18 EMU0, V19 EMU1, W9 VREFN (power), W10 AIN1, W11 AIN5, W12 VREFP (power), W13 OSC1_GND (power), W18 TDO, W19 TMS, W20 TRSTN, Y9 AGND_ADC (power), Y10 AIN0, Y11 AIN4, Y12 SYS_ADC_1P8V (power), Y13 OSC1_IN, Y14 OSC1_OUT, Y18 TDI, Y19 TCK
part C pins: A4 EMMC_RSTN, A9 GPMC_WPN, A10 GPMC_A9, A11 GPMC_A6, A12 GPMC_A3, A13 GPMC_A0, A14 GPMC_CLK, A15 GPMC_AD14, A16 GPMC_AD11, A17 GPMC_AD8, B9 GPMC_WAIT0, B10 GPMC_A10, B11 GPMC_A7, B12 GPMC_A4, B13 GPMC_A1, B14 GPMC_CSN3, B15 GPMC_AD13, B16 GPMC_AD10, C9 GPMC_BEN1, C10 GPMC_A11, C11 GPMC_A8, C12 GPMC_A5, C13 GPMC_A2, C14 GPMC_AD15, C15 GPMC_AD12, C16 GPMC_AD9, K18 GPMC_WEN, K19 GPMC_OEN_REN, K20 GPMC_CSN0, L19 GPMC_ADVN_ALE, L20 GPMC_BEN0_CLE , V2 MMC0_DAT2, V3 MMC0_DAT1, V4 SPI0_CS1, V5 UART0_RTSN, V6 UART0_CTSN, V14 XDMA_EVENT_INTR1, V15 ECAP0_IN_PWM0_OUT, V16 MCASP0_AHCLKX, V17 MCASP0_AXR1, W2 MMC0_CMD, W3 MMC0_CLK, W4 SPI0_D1, W5 SPI0_D0, W6 UART0_TXD, W7 UART1_TXD, W8 UART1_CTSN, W14 XDMA_EVENT_INTR0, W15 MCASP0_FSR, W16 MCASP0_AXR0, W17 MCASP0_AHCLKR, Y2 MMC0_DAT3, Y3 MMC0_DAT0, Y4 SPI0_CS0, Y5 SPI0_SCLK, Y6 UART0_RXD, Y7 UART1_RXD, Y8 UART1_RTSN, Y15 MCASP0_ACLKR, Y16 MCASP0_FSX, Y17 MCASP0_ACLKX
part D pins: L18 LCD_DATA15, M3 RMII1_REF_CLK, M18 LCD_DATA12, M19 LCD_DATA13, M20 LCD_DATA14, N1 MII1_TX_CLK, N2 MII1_TXD0, N3 MII1_TXD1, N18 LCD_DATA9, N19 LCD_DATA10, N20 LCD_DATA11, P1 MII1_TXD2, P2 MII1_TXD3, P3 MII1_TX_EN, P18 LCD_DATA6, P19 LCD_DATA7, P20 LCD_DATA8, R1 MII1_RX_DV, R2 MII1_COL, R3 MII1_CRS, R18 LCD_DATA3, R19 LCD_DATA4, R20 LCD_DATA5, T1 MII1_RX_CLK, T2 MII1_RX_ER, T3 MII1_RXD0, T18 LCD_DATA0, T19 LCD_DATA1, T20 LCD_DATA2, U1 MII1_RXD1, U2 MII1_RXD2, U3 MII1_RXD3, U18 LCD_VSYNC , U19 LCD_HSYNC, U20 LCD_PCLK , V1 MDIO, V20 LCD_AC_BIAS_EN, W1 MDC
part E pins: A1 DGND (power), A20 DGND (power), D4 DGND (power), D5 DGND (power), D15 DGND (power), D16 DGND (power), D17 DGND (power), E4 DGND (power), E5 DGND (power), E6 DGND (power), E7 DGND (power), E8 DGND (power), E9 DGND (power), E10 DGND (power), E11 DGND (power), E12 DGND (power), E13 DGND (power), E14 DGND (power), E15 DGND (power), E16 DGND (power), E17 DGND (power), F5 DGND (power), F10 DGND (power), F11 DGND (power), F16 DGND (power), F17 DGND (power), G5 DGND (power), G16 DGND (power), H5 DGND (power), H16 DGND (power), J5 DGND (power), J9 DGND (power), J10 DGND (power), J11 DGND (power), J12 DGND (power), J13 DGND (power), J16 DGND (power), K5 DGND (power), K6 DGND (power), K7 DGND (power), K8 DGND (power), K9 DGND (power), K12 DGND (power), K15 DGND (power), K16 DGND (power), L5 DGND (power), L6 DGND (power), L15 DGND (power), L16 DGND (power), M5 DGND (power), M15 DGND (power), M16 DGND (power), N5 DGND (power), N6 DGND (power), N15 DGND (power), N16 DGND (power), P5 DGND (power), P6 DGND (power), P7 DGND (power), P8 DGND (power), P9 DGND (power), P12 DGND (power), P13 DGND (power), P14 DGND (power), P15 DGND (power), P16 DGND (power), R5 DGND (power), R9 DGND (power), R10 DGND (power), R11 DGND (power), R12 DGND (power), R16 DGND (power), T4 DGND (power), T5 DGND (power), T6 DGND (power), T7 DGND (power), T8 DGND (power), T9 DGND (power), T10 DGND (power), T11 DGND (power), T12 DGND (power), T13 DGND (power), T14 DGND (power), T15 DGND (power), T16 DGND (power), T17 DGND (power), U4 DGND (power), U5 DGND (power), U16 DGND (power), U17 DGND (power) "U17", Y1 DGND (power), Y20 DGND (power)
part F pins: M6 OSC0_TP, R13 VPP (power), U6 VDD_MPU (power), U9 VDDS_DDR (power), U10 VDDS_PLL (power), U13 VDD_CORE (power), V13 CAP_VDD_RTC (power)
part G pins: A2 NC, A3 NC, A5 NC, A6 NC, A7 NC, A8 NC, B1 NC, B2 NC, B3 NC, B4 NC, B5 NC, B6 NC, B7 NC, B8 NC, C1 NC, C2 NC, C3 NC, C4 NC, C5 NC, C6 NC, C7 NC, C8 NC, D1 NC, D2 NC, D3 NC, D6 NC, D7 NC, D8 NC, E1 NC, E2 NC, E3 NC, E18 NC, F1 NC, F2 NC, F3 NC, F4 NC, F6 NC (power), F7 NC (power), F20 NC, G1 NC, G2 NC, G3 NC, G4 NC, G6 NC (power), G7 NC (power), G10 NC, G11 NC, G18 NC, G19 NC, G20 NC, H4 NC, H6 NC, H9 NC, H10 NC, H11 NC, H12 NC, H13 NC, H18 NC, H19 NC, H20 NC, J4 NC, J6 NC, J18 NC, J19 NC, J20 NC, K4 NC, L4 NC, L17 NC, M4 NC, M17 NC, N4 NC, N17 NC, P4 NC, P17 NC, R4 NC, R6 NC, R7 NC, R8 NC (power), R14 NC, R15 NC, R17 NC, U11 NC
part A text: NC if VDD1 enabled; (internal pull-up); eMMC Power; SIP A; with pour; Connect together; Connect to either:; I2C0; Reset; Connect together with pour; GND to PGM EEPROM; RTC Power connection:; Enable - GND; Disable - VDDS_RTC; NC if RTC enabled
part B text: SIP B; NC if OSC0 enabled; (internal pull-up); Analog; XTAL; Pwr & Gnd; RTC; Analog Inputs; JTAG; USB0; USB1
part C text: SIP C; EMMC_RSTN has; internal pull-up
part D text: SIP D
part E text: SIP E; pads instead of a via per pad.; NOTE: Can use pours to connect VSS
part F text: SIP F; Do Not Use; Test Point per signal; recommended; Do Not Connect; RTC Power Connection:; Enable - NC; Disable - VDD_CORE
part G text: SIP G; Do Not Connect; All pins reserved; for future use

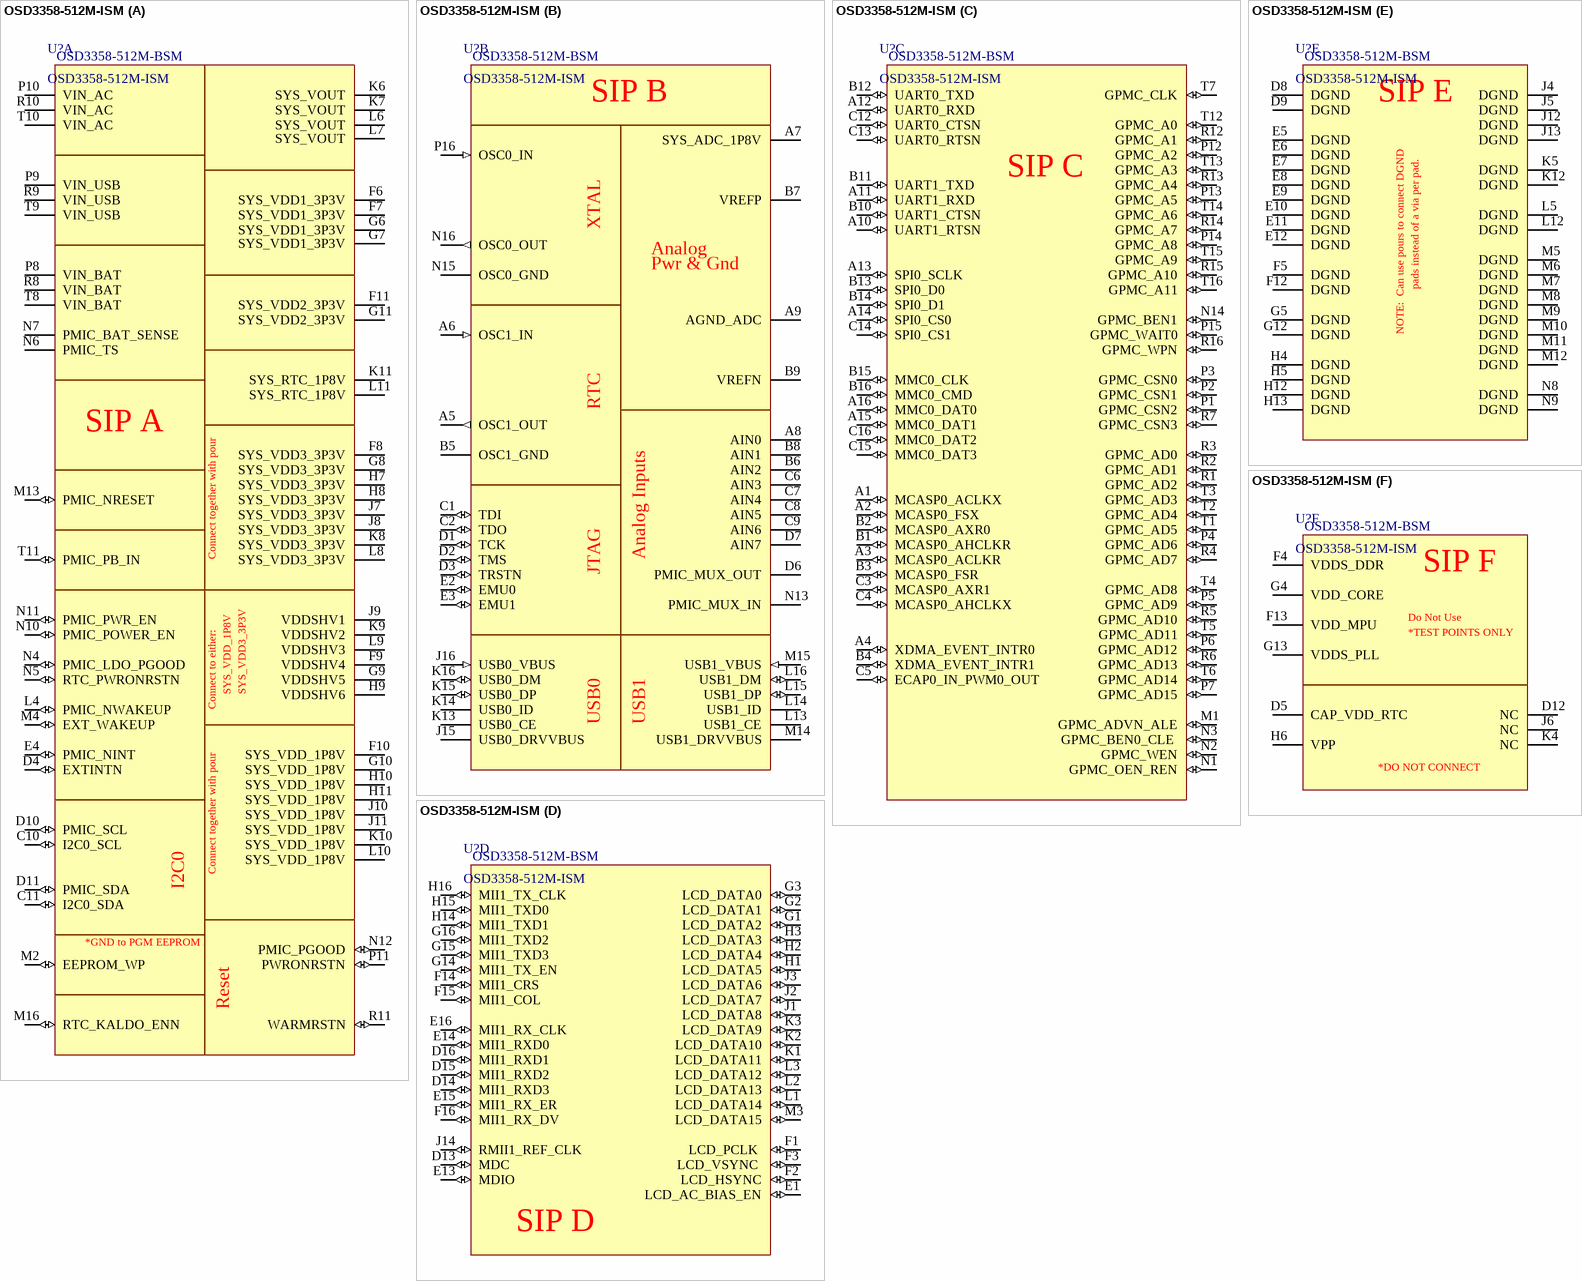
[diagram p5: symbol OSD3358-512M-ISM]

## OSD3358-512M-ISM
designator U?  PartNumber: OSD3358-512M-BSM
Octavo Systems LLC OSD335x Family SiP:  27mm x 27mm, 1.27mm pitch 400 pin BGA contains AM3358, 512MB DDR3, TPS65217, TL5209, 4KB EEPROM, 4GB eMMC, 24MHz oscillator, and passives.  Industrial Temperature (case):  -40C to 85C.; PackageDescription: 256-Ball Grid Array, 21x21x3 mm, Pitch 1.27 mm; Package: FBGA; Pin Count: 256-ball; Mounting Technology: Surface Mount; Manufacturer: Octavo Systems; ComponentLink1Description: Manufacturer URL; ComponentLink1URL: http://www.octavosystems.com/; PackageReference: FBGA-256
footprint BGA_16x16_256_1p27mm (256 pin 1.27mm pitch footprint)
part A pins: C10 I2C0_SCL (io), C11 I2C0_SDA (io), D4 EXTINTN (io), D10 PMIC_SCL (io), D11 PMIC_SDA (io), E4 PMIC_NINT (io), F6 SYS_VDD1_3P3V (power), F7 SYS_VDD1_3P3V (power), F8 SYS_VDD3_3P3V (power), F9 VDDSHV4 (power), F10 SYS_VDD_1P8V (power), F11 SYS_VDD2_3P3V (power), G6 SYS_VDD1_3P3V (power), G7 SYS_VDD1_3P3V (power), G8 SYS_VDD3_3P3V (power), G9 VDDSHV5 (power), G10 SYS_VDD_1P8V (power), G11 SYS_VDD2_3P3V (power), H7 SYS_VDD3_3P3V (power), H8 SYS_VDD3_3P3V (power), H9 VDDSHV6 (power), H10 SYS_VDD_1P8V (power), H11 SYS_VDD_1P8V (power), J7 SYS_VDD3_3P3V (power), J8 SYS_VDD3_3P3V (power), J9 VDDSHV1 (power), J10 SYS_VDD_1P8V (power), J11 SYS_VDD_1P8V (power), K6 SYS_VOUT (power), K7 SYS_VOUT (power), K8 SYS_VDD3_3P3V (power), K9 VDDSHV2 (power), K10 SYS_VDD_1P8V (power), K11 SYS_RTC_1P8V (power), L4 PMIC_NWAKEUP (io), L6 SYS_VOUT (power), L7 SYS_VOUT (power), L8 SYS_VDD3_3P3V (power), L9 VDDSHV3 (power), L10 SYS_VDD_1P8V (power), L11 SYS_RTC_1P8V (power), M2 EEPROM_WP (io), M4 EXT_WAKEUP (io), M13 PMIC_NRESET (io), M16 RTC_KALDO_ENN (io), N4 PMIC_LDO_PGOOD (io), N5 RTC_PWRONRSTN (io), N6 PMIC_TS, N7 PMIC_BAT_SENSE, N10 PMIC_POWER_EN (io), N11 PMIC_PWR_EN (io), N12 PMIC_PGOOD (io), P8 VIN_BAT (power), P9 VIN_USB (power), P10 VIN_AC (power), P11 PWRONRSTN (io), R8 VIN_BAT (power), R9 VIN_USB (power), R10 VIN_AC (power), R11 WARMRSTN (io), T8 VIN_BAT (power), T9 VIN_USB (power), T10 VIN_AC (power), T11 PMIC_PB_IN (io)
part B pins: A5 OSC1_OUT (out), A6 OSC1_IN (in), A7 SYS_ADC_1P8V (power), A8 AIN0, A9 AGND_ADC (power), B5 OSC1_GND (power), B6 AIN2, B7 VREFP (power), B8 AIN1, B9 VREFN (power), C1 TDI (io), C2 TDO (io), C6 AIN3, C7 AIN4, C8 AIN5, C9 AIN6, D1 TCK (io), D2 TMS (io), D3 TRSTN (io), D6 PMIC_MUX_OUT, D7 AIN7, E2 EMU0 (io), E3 EMU1 (io), J15 USB0_DRVVBUS (power), J16 USB0_VBUS (in), K13 USB0_CE (power), K14 USB0_ID, K15 USB0_DP (io), K16 USB0_DM (io), L13 USB1_CE (power), L14 USB1_ID, L15 USB1_DP (io), L16 USB1_DM (io), M14 USB1_DRVVBUS (power), M15 USB1_VBUS (in), N13 PMIC_MUX_IN, N15 OSC0_GND (power), N16 OSC0_OUT (out), P16 OSC0_IN (in)
part C pins: A1 MCASP0_ACLKX (io), A2 MCASP0_FSX (io), A3 MCASP0_ACLKR (io), A4 XDMA_EVENT_INTR0 (io), A10 UART1_RTSN (io), A11 UART1_RXD (io), A12 UART0_RXD (io), A13 SPI0_SCLK (io), A14 SPI0_CS0 (io), A15 MMC0_DAT1 (io), A16 MMC0_DAT0 (io), B1 MCASP0_AHCLKR (io), B2 MCASP0_AXR0 (io), B3 MCASP0_FSR (io), B4 XDMA_EVENT_INTR1 (io), B10 UART1_CTSN (io), B11 UART1_TXD (io), B12 UART0_TXD (io), B13 SPI0_D0 (io), B14 SPI0_D1 (io), B15 MMC0_CLK (io), B16 MMC0_CMD (io), C3 MCASP0_AXR1 (io), C4 MCASP0_AHCLKX (io), C5 ECAP0_IN_PWM0_OUT (io), C12 UART0_CTSN (io), C13 UART0_RTSN (io), C14 SPI0_CS1 (io), C15 MMC0_DAT3 (io), C16 MMC0_DAT2 (io), M1 GPMC_ADVN_ALE (io), N1 GPMC_OEN_REN (io), N2 GPMC_WEN (io), N3 GPMC_BEN0_CLE  (io), N14 GPMC_BEN1 (io), P1 GPMC_CSN2 (io), P2 GPMC_CSN1 (io), P3 GPMC_CSN0 (io), P4 GPMC_AD6 (io), P5 GPMC_AD9 (io), P6 GPMC_AD12 (io), P7 GPMC_AD15 (io), P12 GPMC_A2 (io), P13 GPMC_A5 (io), P14 GPMC_A8 (io), P15 GPMC_WAIT0 (io), R1 GPMC_AD2 (io), R2 GPMC_AD1 (io), R3 GPMC_AD0 (io), R4 GPMC_AD7 (io), R5 GPMC_AD10 (io), R6 GPMC_AD13 (io), R7 GPMC_CSN3 (io), R12 GPMC_A1 (io), R13 GPMC_A4 (io), R14 GPMC_A7 (io), R15 GPMC_A10 (io), R16 GPMC_WPN (io), T1 GPMC_AD5 (io), T2 GPMC_AD4 (io), T3 GPMC_AD3 (io), T4 GPMC_AD8 (io), T5 GPMC_AD11 (io), T6 GPMC_AD14 (io), T7 GPMC_CLK (io), T12 GPMC_A0 (io), T13 GPMC_A3 (io), T14 GPMC_A6 (io), T15 GPMC_A9 (io), T16 GPMC_A11 (io)
part D pins: D13 MDC (io), D14 MII1_RXD3 (io), D15 MII1_RXD2 (io), D16 MII1_RXD1 (io), E1 LCD_AC_BIAS_EN (io), E13 MDIO (io), E14 MII1_RXD0 (io), E15 MII1_RX_ER (io), E16  MII1_RX_CLK (io), F1 LCD_PCLK  (io), F2 LCD_HSYNC (io), F3 LCD_VSYNC  (io), F14 MII1_CRS (io), F15 MII1_COL (io), F16 MII1_RX_DV (io), G1 LCD_DATA2 (io), G2 LCD_DATA1 (io), G3 LCD_DATA0 (io), G14 MII1_TX_EN (io), G15 MII1_TXD3 (io), G16 MII1_TXD2 (io), H1 LCD_DATA5 (io), H2 LCD_DATA4 (io), H3 LCD_DATA3 (io), H14 MII1_TXD1 (io), H15 MII1_TXD0 (io), H16  MII1_TX_CLK (io), J1 LCD_DATA8 (io), J2 LCD_DATA7 (io), J3 LCD_DATA6 (io), J14 RMII1_REF_CLK (io), K1 LCD_DATA11 (io), K2 LCD_DATA10 (io), K3 LCD_DATA9 (io), L1 LCD_DATA14 (io), L2 LCD_DATA13 (io), L3 LCD_DATA12 (io), M3 LCD_DATA15 (io)
part E pins: D8 DGND (power), D9 DGND (power), E5 DGND (power), E6 DGND (power), E7 DGND (power), E8 DGND (power), E9 DGND (power), E10 DGND (power), E11 DGND (power), E12 DGND (power), F5 DGND (power), F12 DGND (power), G5 DGND (power), G12 DGND (power), H4 DGND (power), H5 DGND (power), H12 DGND (power), H13 DGND (power), J4 DGND (power), J5 DGND (power), J12 DGND (power), J13 DGND (power), K5 DGND (power), K12 DGND (power), L5 DGND (power), L12 DGND (power), M5 DGND (power), M6 DGND (power), M7 DGND (power), M8 DGND (power), M9 DGND (power), M10 DGND (power), M11 DGND (power), M12 DGND (power), N8 DGND (power), N9 DGND (power)
part F pins: D5 CAP_VDD_RTC (power), D12 NC (power), F4 VDDS_DDR (power), F13 VDD_MPU (power), G4 VDD_CORE (power), G13 VDDS_PLL (power), H6 VPP (power), J6 NC (power), K4 NC (power)
part A text: SIP A; Connect together with pour; Connect to either:; I2C0; *GND to PGM EEPROM; Reset
part B text: SIP B; XTAL; Analog; Pwr & Gnd; RTC; Analog Inputs; JTAG; USB0; USB1
part C text: SIP C
part D text: SIP D
part E text: SIP E; pads instead of a via per pad.; NOTE:  Can use pours to connect DGND
part F text: SIP F; Do Not Use; *TEST POINTS ONLY; *DO NOT CONNECT